# Altium schematic symbol library kmilo17pet-NSC_Amplifier.SchLib: 1665 symbols (part 15 of 44)
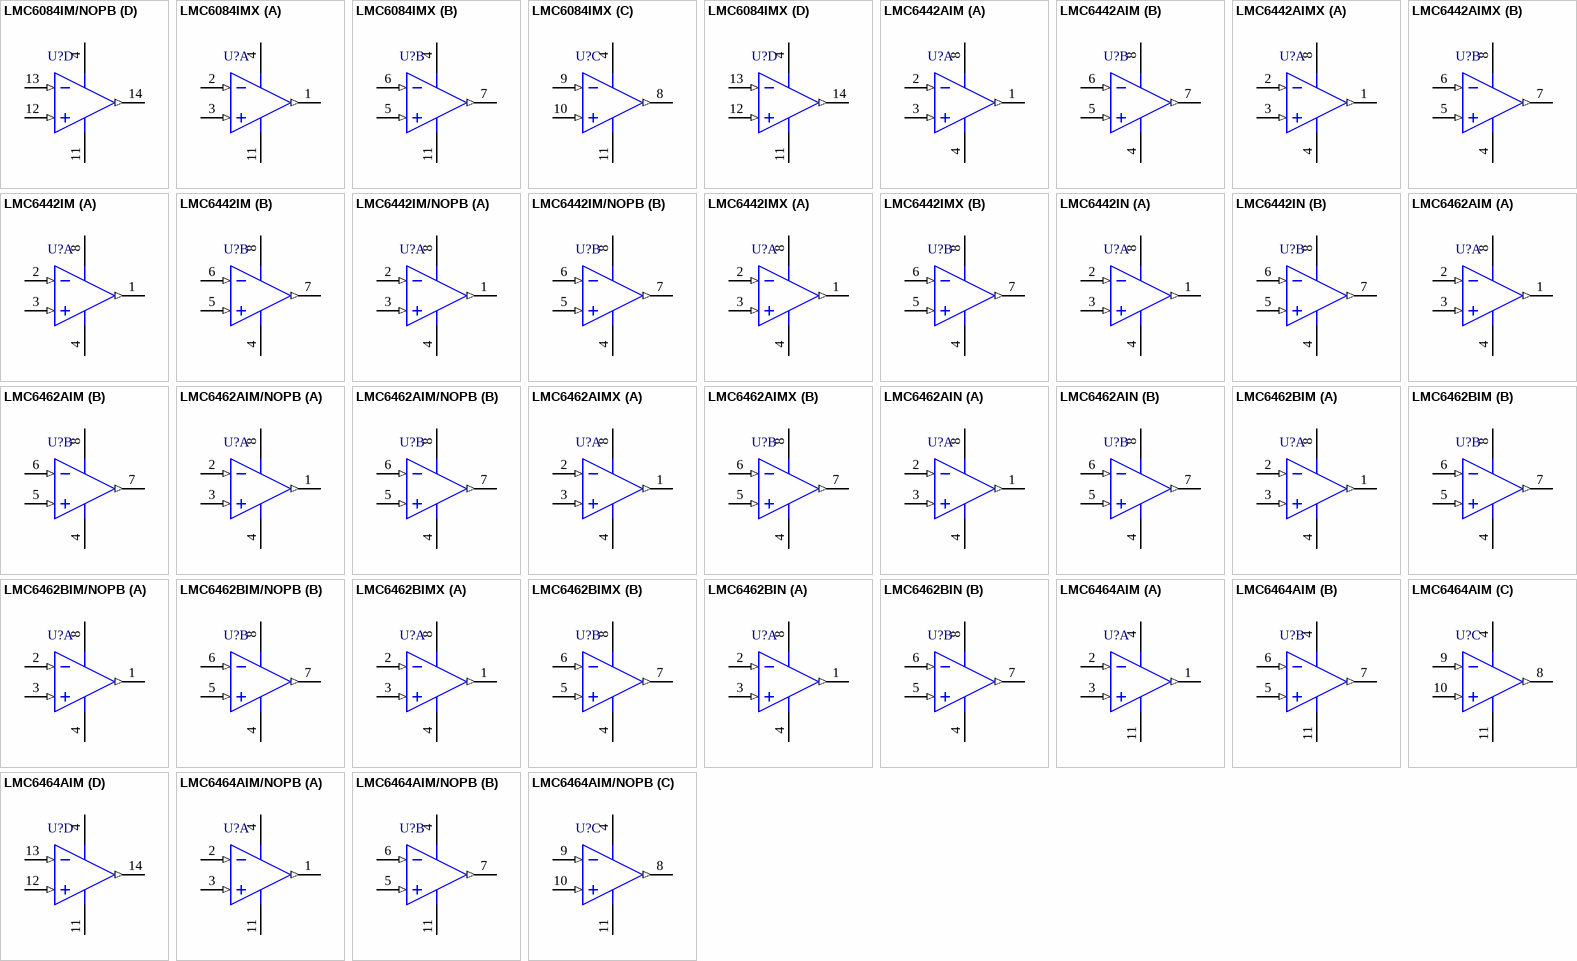
[diagram p98: symbols LMC6084IM/NOPB to LMC6464AIM/NOPB]

## LMC6464AIM
designator U?
Quad Micropower, Rail-to-Rail Input and Output CMOS Operational Amplifier, 14-pin Narrow SOIC; PartNumber: LMC6464AIM; Manufacturer: National Semiconductor; PackageTopMarking: NSUZXYTTE#*LMC6464*AIM; PowerWise: N; CompType: Amplifiers; High-Reliability: Y; DatasheetVersion: Feb-2004; PackageVersion: revJ, Jan-1996; PackageReference: M14A; PackageDescription: Molded Package S.O., .150in Wide, 14 Lead; RoHS: N; PinCount: 14; Code_JEDEC: MS-012AB; Code_IPC: SOIC127P600-14; ComponentLink1Description: Manufacturer URL; ComponentLink1URL: http://www.national.com/; ComponentLink2Description: LMC6464 Datasheet; ComponentLink2URL: http://www.national.com/ds/LM/LMC6464.pdf; ComponentLink3Description: LMC6464 Web Page; ComponentLink3URL: http://www.national.com/pf/LM/LMC6464.html; ComponentLink4Description: M14A Package Page; ComponentLink4URL: http://www.national.com/packaging/folders/m14a.html
footprint M14A_N (SOIC, 14-Leads, Body 8.6x3.9mm, Pitch 1.27mm, IPC Medium Density)
footprint M14A_L (SOIC, 14-Leads, Body 8.6x3.9mm, Pitch 1.27mm, IPC High Density)
footprint M14A_M (SOIC, 14-Leads, Body 8.6x3.9mm, Pitch 1.27mm, IPC Low Density)
pins on every part: 4 V+ (power), 11 V- (power)
part A pins: 1 OUTA (out), 2 INA- (in), 3 INA+ (in)
part B pins: 5 INB+ (in), 6 INB- (in), 7 OUTB (out)
part C pins: 8 OUTC (out), 9 INC- (in), 10 INC+ (in)
part D pins: 12 IND+ (in), 13 IND- (in), 14 OUTD (out)

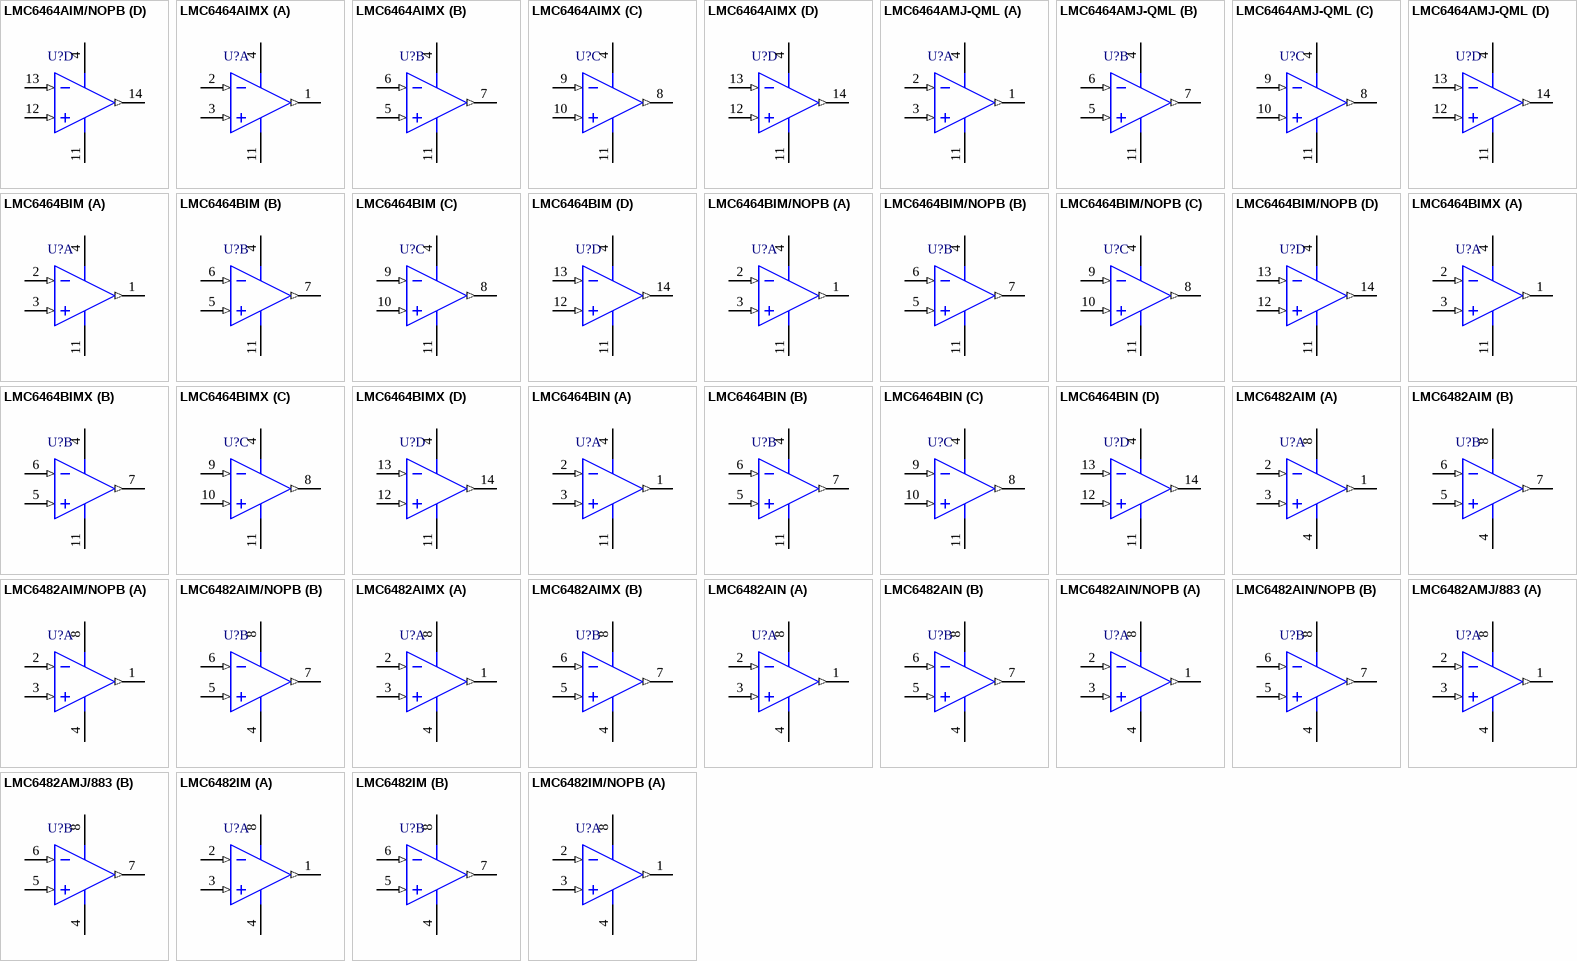
[diagram p33: symbols LMC6464AIM/NOPB to LMC6482IM/NOPB]

## LMC6464AIM/NOPB
designator U?
Quad Micropower, Rail-to-Rail Input and Output CMOS Operational Amplifier, 14-pin Narrow SOIC, Pb-Free; PartNumber: LMC6464AIM/NOPB; Manufacturer: National Semiconductor; PackageTopMarking: NSUZXYTTE#*LMC6464*AIM; PowerWise: N; CompType: Amplifiers; High-Reliability: Y; DatasheetVersion: Feb-2004; PackageVersion: revJ, Jan-1996; PackageReference: M14A; PackageDescription: Molded Package S.O., .150in Wide, 14 Lead; RoHS: Y; PinCount: 14; Code_JEDEC: MS-012AB; Code_IPC: SOIC127P600-14; ComponentLink1Description: Manufacturer URL; ComponentLink1URL: http://www.national.com/; ComponentLink2Description: LMC6464 Datasheet; ComponentLink2URL: http://www.national.com/ds/LM/LMC6464.pdf; ComponentLink3Description: LMC6464 Web Page; ComponentLink3URL: http://www.national.com/pf/LM/LMC6464.html; ComponentLink4Description: M14A Package Page; ComponentLink4URL: http://www.national.com/packaging/folders/m14a.html
footprint M14A_N (SOIC, 14-Leads, Body 8.6x3.9mm, Pitch 1.27mm, IPC Medium Density)
footprint M14A_L (SOIC, 14-Leads, Body 8.6x3.9mm, Pitch 1.27mm, IPC High Density)
footprint M14A_M (SOIC, 14-Leads, Body 8.6x3.9mm, Pitch 1.27mm, IPC Low Density)
pins on every part: 4 V+ (power), 11 V- (power)
part A pins: 1 OUTA (out), 2 INA- (in), 3 INA+ (in)
part B pins: 5 INB+ (in), 6 INB- (in), 7 OUTB (out)
part C pins: 8 OUTC (out), 9 INC- (in), 10 INC+ (in)
part D pins: 12 IND+ (in), 13 IND- (in), 14 OUTD (out)

## LMC6464AIMX
designator U?
Quad Micropower, Rail-to-Rail Input and Output CMOS Operational Amplifier, 14-pin Narrow SOIC; PartNumber: LMC6464AIMX; Manufacturer: National Semiconductor; PackageTopMarking: NSUZXYTTE#*LMC6464*AIM; PowerWise: N; CompType: Amplifiers; High-Reliability: Y; DatasheetVersion: Feb-2004; PackageVersion: revJ, Jan-1996; PackageReference: M14A; PackageDescription: Molded Package S.O., .150in Wide, 14 Lead; RoHS: N; PinCount: 14; Code_JEDEC: MS-012AB; Code_IPC: SOIC127P600-14; ComponentLink1Description: Manufacturer URL; ComponentLink1URL: http://www.national.com/; ComponentLink2Description: LMC6464 Datasheet; ComponentLink2URL: http://www.national.com/ds/LM/LMC6464.pdf; ComponentLink3Description: LMC6464 Web Page; ComponentLink3URL: http://www.national.com/pf/LM/LMC6464.html; ComponentLink4Description: M14A Package Page; ComponentLink4URL: http://www.national.com/packaging/folders/m14a.html
footprint M14A_N (SOIC, 14-Leads, Body 8.6x3.9mm, Pitch 1.27mm, IPC Medium Density)
footprint M14A_L (SOIC, 14-Leads, Body 8.6x3.9mm, Pitch 1.27mm, IPC High Density)
footprint M14A_M (SOIC, 14-Leads, Body 8.6x3.9mm, Pitch 1.27mm, IPC Low Density)
pins on every part: 4 V+ (power), 11 V- (power)
part A pins: 1 OUTA (out), 2 INA- (in), 3 INA+ (in)
part B pins: 5 INB+ (in), 6 INB- (in), 7 OUTB (out)
part C pins: 8 OUTC (out), 9 INC- (in), 10 INC+ (in)
part D pins: 12 IND+ (in), 13 IND- (in), 14 OUTD (out)

## LMC6464AMJ-QML
designator U?
Quad Micropower, Rail-to-Rail Input and Output CMOS Operational Amplifier, 14-pin CerDIP, 25 Rail; PartNumber: LMC6464AMJ-QML; Manufacturer: National Semiconductor; PackageTopMarking: NSZSSXXYYA*LMC6464AMJ-QML*5962-9560302QCA Q; PowerWise: N; CompType: Amplifiers; High-Reliability: Y; DatasheetVersion: Dec-2010; PackageVersion: revJ, Jul-2002; PackageReference: J14A; PackageDescription: Cerdip, .400 x .310in Body, 14 Lead, .300in Centers, .100in Pitch; RoHS: N; PinCount: 14; ComponentLink1Description: Manufacturer URL; ComponentLink1URL: http://www.national.com/; ComponentLink2Description: LMC6464 Datasheet; ComponentLink2URL: http://www.national.com/ds/LM/LMC6464QML.pdf; ComponentLink3Description: LMC6464 Web Page; ComponentLink3URL: http://www.national.com/pf/LM/LMC6464.html; ComponentLink4Description: J14A Package Page; ComponentLink4URL: http://www.national.com/packaging/folders/j14a.html
footprint J14A (DIP, 14-Leads, Row Spacing 7.62mm, Pitch 2.54mm, Body 19.56x6.73mm)
pins on every part: 4 V+ (power), 11 V- (power)
part A pins: 1 OUTA (out), 2 INA- (in), 3 INA+ (in)
part B pins: 5 INB+ (in), 6 INB- (in), 7 OUTB (out)
part C pins: 8 OUTC (out), 9 INC- (in), 10 INC+ (in)
part D pins: 12 IND+ (in), 13 IND- (in), 14 OUTD (out)

## LMC6464BIM
designator U?
Quad Micropower, Rail-to-Rail Input and Output CMOS Operational Amplifier, 14-pin Narrow SOIC; PartNumber: LMC6464BIM; Manufacturer: National Semiconductor; PackageTopMarking: NSUZXYTTE#*LMC6464*BIM; PowerWise: N; CompType: Amplifiers; High-Reliability: Y; DatasheetVersion: Feb-2004; PackageVersion: revJ, Jan-1996; PackageReference: M14A; PackageDescription: Molded Package S.O., .150in Wide, 14 Lead; RoHS: N; PinCount: 14; Code_JEDEC: MS-012AB; Code_IPC: SOIC127P600-14; ComponentLink1Description: Manufacturer URL; ComponentLink1URL: http://www.national.com/; ComponentLink2Description: LMC6464 Datasheet; ComponentLink2URL: http://www.national.com/ds/LM/LMC6464.pdf; ComponentLink3Description: LMC6464 Web Page; ComponentLink3URL: http://www.national.com/pf/LM/LMC6464.html; ComponentLink4Description: M14A Package Page; ComponentLink4URL: http://www.national.com/packaging/folders/m14a.html
footprint M14A_N (SOIC, 14-Leads, Body 8.6x3.9mm, Pitch 1.27mm, IPC Medium Density)
footprint M14A_L (SOIC, 14-Leads, Body 8.6x3.9mm, Pitch 1.27mm, IPC High Density)
footprint M14A_M (SOIC, 14-Leads, Body 8.6x3.9mm, Pitch 1.27mm, IPC Low Density)
pins on every part: 4 V+ (power), 11 V- (power)
part A pins: 1 OUTA (out), 2 INA- (in), 3 INA+ (in)
part B pins: 5 INB+ (in), 6 INB- (in), 7 OUTB (out)
part C pins: 8 OUTC (out), 9 INC- (in), 10 INC+ (in)
part D pins: 12 IND+ (in), 13 IND- (in), 14 OUTD (out)

## LMC6464BIM/NOPB
designator U?
Quad Micropower, Rail-to-Rail Input and Output CMOS Operational Amplifier, 14-pin Narrow SOIC, Pb-Free; PartNumber: LMC6464BIM/NOPB; Manufacturer: National Semiconductor; PackageTopMarking: NSUZXYTTE#*LMC6464*BIM; PowerWise: N; CompType: Amplifiers; High-Reliability: Y; DatasheetVersion: Feb-2004; PackageVersion: revJ, Jan-1996; PackageReference: M14A; PackageDescription: Molded Package S.O., .150in Wide, 14 Lead; RoHS: Y; PinCount: 14; Code_JEDEC: MS-012AB; Code_IPC: SOIC127P600-14; ComponentLink1Description: Manufacturer URL; ComponentLink1URL: http://www.national.com/; ComponentLink2Description: LMC6464 Datasheet; ComponentLink2URL: http://www.national.com/ds/LM/LMC6464.pdf; ComponentLink3Description: LMC6464 Web Page; ComponentLink3URL: http://www.national.com/pf/LM/LMC6464.html; ComponentLink4Description: M14A Package Page; ComponentLink4URL: http://www.national.com/packaging/folders/m14a.html
footprint M14A_N (SOIC, 14-Leads, Body 8.6x3.9mm, Pitch 1.27mm, IPC Medium Density)
footprint M14A_L (SOIC, 14-Leads, Body 8.6x3.9mm, Pitch 1.27mm, IPC High Density)
footprint M14A_M (SOIC, 14-Leads, Body 8.6x3.9mm, Pitch 1.27mm, IPC Low Density)
pins on every part: 4 V+ (power), 11 V- (power)
part A pins: 1 OUTA (out), 2 INA- (in), 3 INA+ (in)
part B pins: 5 INB+ (in), 6 INB- (in), 7 OUTB (out)
part C pins: 8 OUTC (out), 9 INC- (in), 10 INC+ (in)
part D pins: 12 IND+ (in), 13 IND- (in), 14 OUTD (out)

## LMC6464BIMX
designator U?
Quad Micropower, Rail-to-Rail Input and Output CMOS Operational Amplifier, 14-pin Narrow SOIC; PartNumber: LMC6464BIMX; Manufacturer: National Semiconductor; PackageTopMarking: NSUZXYTTE#*LMC6464*BIM; PowerWise: N; CompType: Amplifiers; High-Reliability: Y; DatasheetVersion: Feb-2004; PackageVersion: revJ, Jan-1996; PackageReference: M14A; PackageDescription: Molded Package S.O., .150in Wide, 14 Lead; RoHS: N; PinCount: 14; Code_JEDEC: MS-012AB; Code_IPC: SOIC127P600-14; ComponentLink1Description: Manufacturer URL; ComponentLink1URL: http://www.national.com/; ComponentLink2Description: LMC6464 Datasheet; ComponentLink2URL: http://www.national.com/ds/LM/LMC6464.pdf; ComponentLink3Description: LMC6464 Web Page; ComponentLink3URL: http://www.national.com/pf/LM/LMC6464.html; ComponentLink4Description: M14A Package Page; ComponentLink4URL: http://www.national.com/packaging/folders/m14a.html
footprint M14A_N (SOIC, 14-Leads, Body 8.6x3.9mm, Pitch 1.27mm, IPC Medium Density)
footprint M14A_L (SOIC, 14-Leads, Body 8.6x3.9mm, Pitch 1.27mm, IPC High Density)
footprint M14A_M (SOIC, 14-Leads, Body 8.6x3.9mm, Pitch 1.27mm, IPC Low Density)
pins on every part: 4 V+ (power), 11 V- (power)
part A pins: 1 OUTA (out), 2 INA- (in), 3 INA+ (in)
part B pins: 5 INB+ (in), 6 INB- (in), 7 OUTB (out)
part C pins: 8 OUTC (out), 9 INC- (in), 10 INC+ (in)
part D pins: 12 IND+ (in), 13 IND- (in), 14 OUTD (out)

## LMC6464BIN
designator U?
Quad Micropower, Rail-to-Rail Input and Output CMOS Operational Amplifier, 14-pin MDIP; PartNumber: LMC6464BIN; Manufacturer: National Semiconductor; PackageTopMarking: NSUZXYYTTE#*LMC6464BIN; PowerWise: N; CompType: Amplifiers; High-Reliability: Y; DatasheetVersion: Feb-2004; PackageVersion: revG, May-2006; PackageReference: N14A; PackageDescription: MDIP, .750 x .250 x.130in, 14 Lead, .100in Pitch; RoHS: N; PinCount: 14; Code_JEDEC: MS-001-AA; ComponentLink1Description: Manufacturer URL; ComponentLink1URL: http://www.national.com/; ComponentLink2Description: LMC6464 Datasheet; ComponentLink2URL: http://www.national.com/ds/LM/LMC6464.pdf; ComponentLink3Description: LMC6464 Web Page; ComponentLink3URL: http://www.national.com/pf/LM/LMC6464.html; ComponentLink4Description: N14A Package Page; ComponentLink4URL: http://www.national.com/packaging/folders/n14a.html
footprint N14A (DIP, 14-Leads, Row Spacing 7.62mm, Pitch 2.54mm, Body 19.56x6.35mm)
pins on every part: 4 V+ (power), 11 V- (power)
part A pins: 1 OUTA (out), 2 INA- (in), 3 INA+ (in)
part B pins: 5 INB+ (in), 6 INB- (in), 7 OUTB (out)
part C pins: 8 OUTC (out), 9 INC- (in), 10 INC+ (in)
part D pins: 12 IND+ (in), 13 IND- (in), 14 OUTD (out)

## LMC6482AIM
designator U?
CMOS Dual Rail-to-Rail Input and Output Operational Amplifier, 8-pin Narrow SOIC; PartNumber: LMC6482AIM; Manufacturer: National Semiconductor; PackageTopMarking: NSZXTT*LMC64*82AIM; PowerWise: N; CompType: Amplifiers; High-Reliability: Y; DatasheetVersion: Sep-2003; PackageVersion: revM, May-2009; PackageReference: M08A; PackageDescription: SOIC Narrow, 4.9 x 3.9 x 1.45mm, 8 Lead, 1.27mm Pitch; RoHS: N; PinCount: 8; Code_JEDEC: MS-012-AA; Code_IPC: SOIC127P600-8; ComponentLink1Description: Manufacturer URL; ComponentLink1URL: http://www.national.com/; ComponentLink2Description: LMC6482 Datasheet; ComponentLink2URL: http://www.national.com/ds/LM/LMC6482.pdf; ComponentLink3Description: LMC6482 Web Page; ComponentLink3URL: http://www.national.com/pf/LM/LMC6482.html; ComponentLink4Description: M08A Package Page; ComponentLink4URL: http://www.national.com/packaging/folders/m08a.html
footprint M08A_N (SOIC, 8-Leads, Body 4.9x3.9mm, Pitch 1.27mm, IPC Medium Density)
footprint M08A_L (SOIC, 8-Leads, Body 4.9x3.9mm, Pitch 1.27mm, IPC High Density)
footprint M08A_M (SOIC, 8-Leads, Body 4.9x3.9mm, Pitch 1.27mm, IPC Low Density)
pins on every part: 4 V- (power), 8 V+ (power)
part A pins: 1 OUTA (out), 2 INA- (in), 3 INA+ (in)
part B pins: 5 INB+ (in), 6 INB- (in), 7 OUTB (out)

## LMC6482AIM/NOPB
designator U?
CMOS Dual Rail-to-Rail Input and Output Operational Amplifier, 8-pin Narrow SOIC, Pb-Free; PartNumber: LMC6482AIM/NOPB; Manufacturer: National Semiconductor; PackageTopMarking: NSZXTT*LMC64*82AIM; PowerWise: N; CompType: Amplifiers; High-Reliability: Y; DatasheetVersion: Sep-2003; PackageVersion: revM, May-2009; PackageReference: M08A; PackageDescription: SOIC Narrow, 4.9 x 3.9 x 1.45mm, 8 Lead, 1.27mm Pitch; RoHS: Y; PinCount: 8; Code_JEDEC: MS-012-AA; Code_IPC: SOIC127P600-8; ComponentLink1Description: Manufacturer URL; ComponentLink1URL: http://www.national.com/; ComponentLink2Description: LMC6482 Datasheet; ComponentLink2URL: http://www.national.com/ds/LM/LMC6482.pdf; ComponentLink3Description: LMC6482 Web Page; ComponentLink3URL: http://www.national.com/pf/LM/LMC6482.html; ComponentLink4Description: M08A Package Page; ComponentLink4URL: http://www.national.com/packaging/folders/m08a.html
footprint M08A_N (SOIC, 8-Leads, Body 4.9x3.9mm, Pitch 1.27mm, IPC Medium Density)
footprint M08A_L (SOIC, 8-Leads, Body 4.9x3.9mm, Pitch 1.27mm, IPC High Density)
footprint M08A_M (SOIC, 8-Leads, Body 4.9x3.9mm, Pitch 1.27mm, IPC Low Density)
pins on every part: 4 V- (power), 8 V+ (power)
part A pins: 1 OUTA (out), 2 INA- (in), 3 INA+ (in)
part B pins: 5 INB+ (in), 6 INB- (in), 7 OUTB (out)

## LMC6482AIMX
designator U?
CMOS Dual Rail-to-Rail Input and Output Operational Amplifier, 8-pin Narrow SOIC; PartNumber: LMC6482AIMX; Manufacturer: National Semiconductor; PackageTopMarking: NSZXTT*LMC64*82AIM; PowerWise: N; CompType: Amplifiers; High-Reliability: Y; DatasheetVersion: Sep-2003; PackageVersion: revM, May-2009; PackageReference: M08A; PackageDescription: SOIC Narrow, 4.9 x 3.9 x 1.45mm, 8 Lead, 1.27mm Pitch; RoHS: N; PinCount: 8; Code_JEDEC: MS-012-AA; Code_IPC: SOIC127P600-8; ComponentLink1Description: Manufacturer URL; ComponentLink1URL: http://www.national.com/; ComponentLink2Description: LMC6482 Datasheet; ComponentLink2URL: http://www.national.com/ds/LM/LMC6482.pdf; ComponentLink3Description: LMC6482 Web Page; ComponentLink3URL: http://www.national.com/pf/LM/LMC6482.html; ComponentLink4Description: M08A Package Page; ComponentLink4URL: http://www.national.com/packaging/folders/m08a.html
footprint M08A_N (SOIC, 8-Leads, Body 4.9x3.9mm, Pitch 1.27mm, IPC Medium Density)
footprint M08A_L (SOIC, 8-Leads, Body 4.9x3.9mm, Pitch 1.27mm, IPC High Density)
footprint M08A_M (SOIC, 8-Leads, Body 4.9x3.9mm, Pitch 1.27mm, IPC Low Density)
pins on every part: 4 V- (power), 8 V+ (power)
part A pins: 1 OUTA (out), 2 INA- (in), 3 INA+ (in)
part B pins: 5 INB+ (in), 6 INB- (in), 7 OUTB (out)

## LMC6482AIN
designator U?
CMOS Dual Rail-to-Rail Input and Output Operational Amplifier, 8-pin MDIP; PartNumber: LMC6482AIN; Manufacturer: National Semiconductor; PackageTopMarking: NSUZXYTTE#*LMC64*82AIN; PowerWise: N; CompType: Amplifiers; High-Reliability: Y; DatasheetVersion: Sep-2003; PackageVersion: revG, May-2006; PackageReference: N08E; PackageDescription: MDIP, .365 x .250 x .130in, 8 Lead, .100in Pitch; RoHS: N; PinCount: 8; Code_JEDEC: MS-001-BA; ComponentLink1Description: Manufacturer URL; ComponentLink1URL: http://www.national.com/; ComponentLink2Description: LMC6482 Datasheet; ComponentLink2URL: http://www.national.com/ds/LM/LMC6482.pdf; ComponentLink3Description: LMC6482 Web Page; ComponentLink3URL: http://www.national.com/pf/LM/LMC6482.html; ComponentLink4Description: N08E Package Page; ComponentLink4URL: http://www.national.com/packaging/folders/n08e.html
footprint N08E (DIP, 8-Leads, Row Spacing 7.62mm, Pitch 2.54mm, Body 9.91x6.35mm)
pins on every part: 4 V- (power), 8 V+ (power)
part A pins: 1 OUTA (out), 2 INA- (in), 3 INA+ (in)
part B pins: 5 INB+ (in), 6 INB- (in), 7 OUTB (out)

## LMC6482AIN/NOPB
designator U?
CMOS Dual Rail-to-Rail Input and Output Operational Amplifier, 8-pin MDIP, Pb-Free; PartNumber: LMC6482AIN/NOPB; Manufacturer: National Semiconductor; PackageTopMarking: NSUZXYTTE#*LMC64*82AIN; PowerWise: N; CompType: Amplifiers; High-Reliability: Y; DatasheetVersion: Sep-2003; PackageVersion: revG, May-2006; PackageReference: N08E; PackageDescription: MDIP, .365 x .250 x .130in, 8 Lead, .100in Pitch; RoHS: Y; PinCount: 8; Code_JEDEC: MS-001-BA; ComponentLink1Description: Manufacturer URL; ComponentLink1URL: http://www.national.com/; ComponentLink2Description: LMC6482 Datasheet; ComponentLink2URL: http://www.national.com/ds/LM/LMC6482.pdf; ComponentLink3Description: LMC6482 Web Page; ComponentLink3URL: http://www.national.com/pf/LM/LMC6482.html; ComponentLink4Description: N08E Package Page; ComponentLink4URL: http://www.national.com/packaging/folders/n08e.html
footprint N08E (DIP, 8-Leads, Row Spacing 7.62mm, Pitch 2.54mm, Body 9.91x6.35mm)
pins on every part: 4 V- (power), 8 V+ (power)
part A pins: 1 OUTA (out), 2 INA- (in), 3 INA+ (in)
part B pins: 5 INB+ (in), 6 INB- (in), 7 OUTB (out)

## LMC6482AMJ/883
designator U?
CMOS Dual Rail-to-Rail Input and Output Operational Amplifier, 8-pin CerDIP; PartNumber: LMC6482AMJ/883; Manufacturer: National Semiconductor; PackageTopMarking: NSZSSXXYYA*LMC6482AMJ/*883 Q 5962-*9453401MPA; PowerWise: N; CompType: Amplifiers; High-Reliability: Y; DatasheetVersion: Sep-2003; PackageVersion: revM, Jul-2002; PackageReference: J08A; PackageDescription: Cerdip, .400 x .310in Body, 8 Lead, .300in Centers, .100in Pitch; RoHS: N; PinCount: 8; ComponentLink1Description: Manufacturer URL; ComponentLink1URL: http://www.national.com/; ComponentLink2Description: LMC6482 Datasheet; ComponentLink2URL: http://www.national.com/ds/LM/LMC6482QML.pdf; ComponentLink3Description: LMC6482 Web Page; ComponentLink3URL: http://www.national.com/pf/LM/LMC6482.html; ComponentLink4Description: J08A Package Page; ComponentLink4URL: http://www.national.com/packaging/folders/j08a.html
footprint J08A (DIP, 8-Leads, Row Spacing 7.62mm, Pitch 2.54mm, Body 9.78x6.73mm)
pins on every part: 4 V- (power), 8 V+ (power)
part A pins: 1 OUTA (out), 2 INA- (in), 3 INA+ (in)
part B pins: 5 INB+ (in), 6 INB- (in), 7 OUTB (out)

## LMC6482IM
designator U?
CMOS Dual Rail-to-Rail Input and Output Operational Amplifier, 8-pin Narrow SOIC; PartNumber: LMC6482IM; Manufacturer: National Semiconductor; PackageTopMarking: NSZXTT*LMC64*82IM; PowerWise: N; CompType: Amplifiers; High-Reliability: Y; DatasheetVersion: Sep-2003; PackageVersion: revM, May-2009; PackageReference: M08A; PackageDescription: SOIC Narrow, 4.9 x 3.9 x 1.45mm, 8 Lead, 1.27mm Pitch; RoHS: N; PinCount: 8; Code_JEDEC: MS-012-AA; Code_IPC: SOIC127P600-8; ComponentLink1Description: Manufacturer URL; ComponentLink1URL: http://www.national.com/; ComponentLink2Description: LMC6482 Datasheet; ComponentLink2URL: http://www.national.com/ds/LM/LMC6482.pdf; ComponentLink3Description: LMC6482 Web Page; ComponentLink3URL: http://www.national.com/pf/LM/LMC6482.html; ComponentLink4Description: M08A Package Page; ComponentLink4URL: http://www.national.com/packaging/folders/m08a.html
footprint M08A_N (SOIC, 8-Leads, Body 4.9x3.9mm, Pitch 1.27mm, IPC Medium Density)
footprint M08A_L (SOIC, 8-Leads, Body 4.9x3.9mm, Pitch 1.27mm, IPC High Density)
footprint M08A_M (SOIC, 8-Leads, Body 4.9x3.9mm, Pitch 1.27mm, IPC Low Density)
pins on every part: 4 V- (power), 8 V+ (power)
part A pins: 1 OUTA (out), 2 INA- (in), 3 INA+ (in)
part B pins: 5 INB+ (in), 6 INB- (in), 7 OUTB (out)

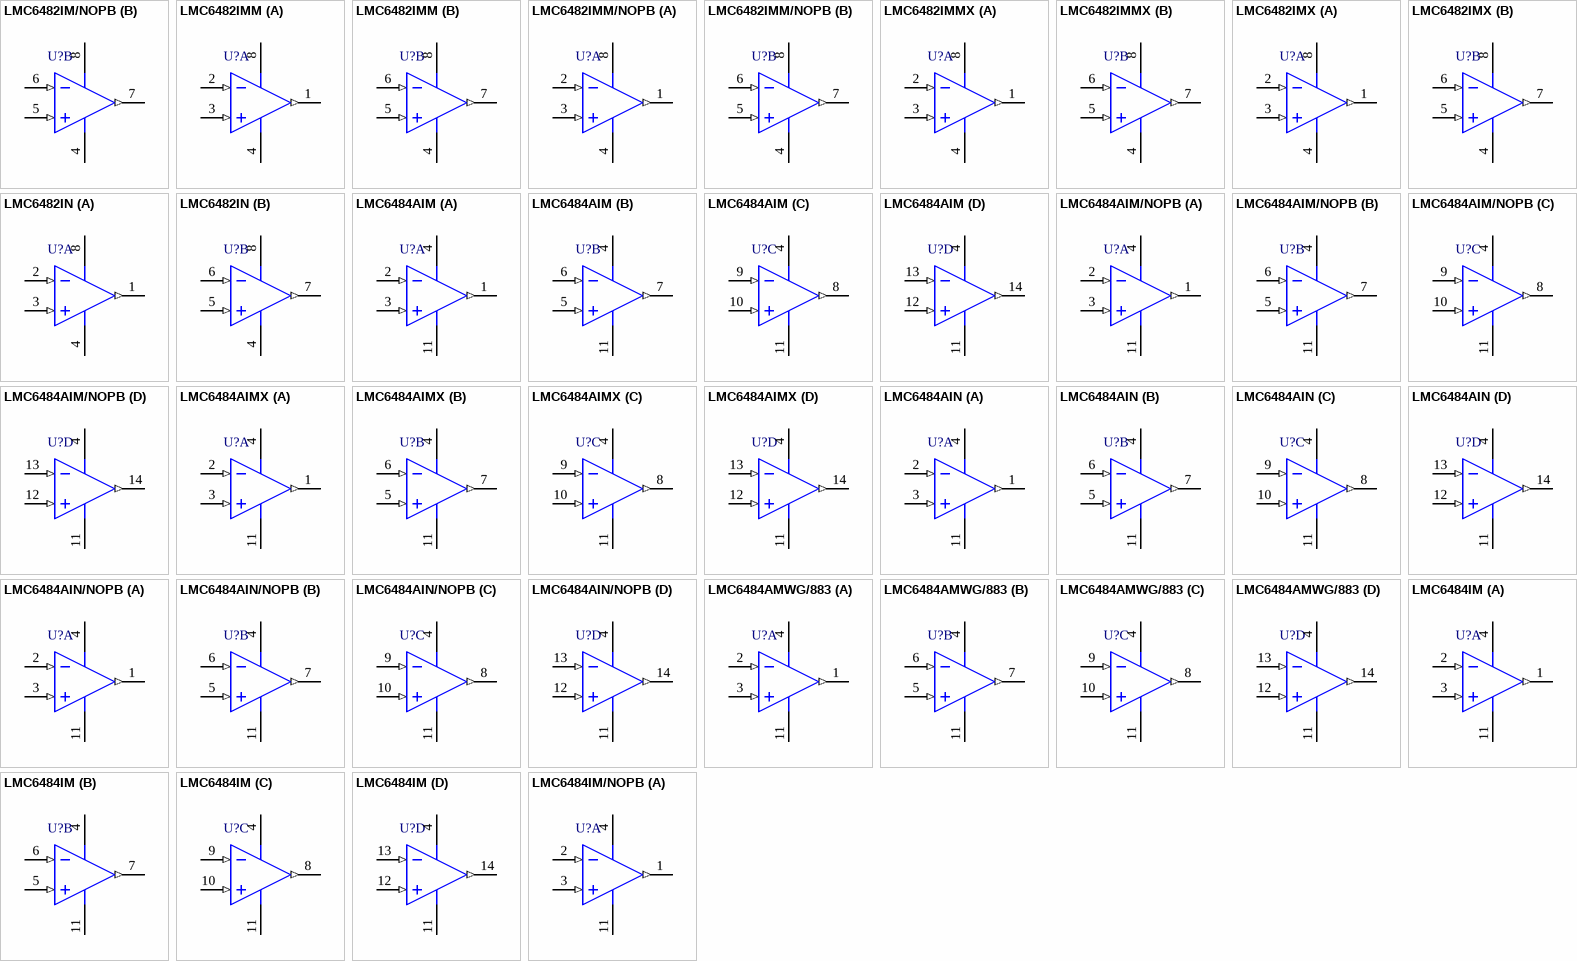
[diagram p34: symbols LMC6482IM/NOPB to LMC6484IM/NOPB]

## LMC6482IM/NOPB
designator U?
CMOS Dual Rail-to-Rail Input and Output Operational Amplifier, 8-pin Narrow SOIC, Pb-Free; PartNumber: LMC6482IM/NOPB; Manufacturer: National Semiconductor; PackageTopMarking: NSZXTT*LMC64*82IM; PowerWise: N; CompType: Amplifiers; High-Reliability: Y; DatasheetVersion: Sep-2003; PackageVersion: revM, May-2009; PackageReference: M08A; PackageDescription: SOIC Narrow, 4.9 x 3.9 x 1.45mm, 8 Lead, 1.27mm Pitch; RoHS: Y; PinCount: 8; Code_JEDEC: MS-012-AA; Code_IPC: SOIC127P600-8; ComponentLink1Description: Manufacturer URL; ComponentLink1URL: http://www.national.com/; ComponentLink2Description: LMC6482 Datasheet; ComponentLink2URL: http://www.national.com/ds/LM/LMC6482.pdf; ComponentLink3Description: LMC6482 Web Page; ComponentLink3URL: http://www.national.com/pf/LM/LMC6482.html; ComponentLink4Description: M08A Package Page; ComponentLink4URL: http://www.national.com/packaging/folders/m08a.html
footprint M08A_N (SOIC, 8-Leads, Body 4.9x3.9mm, Pitch 1.27mm, IPC Medium Density)
footprint M08A_L (SOIC, 8-Leads, Body 4.9x3.9mm, Pitch 1.27mm, IPC High Density)
footprint M08A_M (SOIC, 8-Leads, Body 4.9x3.9mm, Pitch 1.27mm, IPC Low Density)
pins on every part: 4 V- (power), 8 V+ (power)
part A pins: 1 OUTA (out), 2 INA- (in), 3 INA+ (in)
part B pins: 5 INB+ (in), 6 INB- (in), 7 OUTB (out)

## LMC6482IMM
designator U?
CMOS Dual Rail-to-Rail Input and Output Operational Amplifier, 8-pin Mini SOIC; PartNumber: LMC6482IMM; Manufacturer: National Semiconductor; PackageTopMarking: ZXTT*A10; PowerWise: N; CompType: Amplifiers; High-Reliability: Y; DatasheetVersion: Sep-2003; PackageVersion: revF, Apr-2008; PackageReference: MUA08A; PackageDescription: MINI SOIC, .118 x .118 x .034in, 8 Lead, .0256in Pitch; RoHS: N; PinCount: 8; Code_JEDEC: MO-187-AA; ComponentLink1Description: Manufacturer URL; ComponentLink1URL: http://www.national.com/; ComponentLink2Description: LMC6482 Datasheet; ComponentLink2URL: http://www.national.com/ds/LM/LMC6482.pdf; ComponentLink3Description: LMC6482 Web Page; ComponentLink3URL: http://www.national.com/pf/LM/LMC6482.html; ComponentLink4Description: MUA08A Package Page; ComponentLink4URL: http://www.national.com/packaging/folders/mua08a.html
footprint MUA08A_N (TSOP, 8-Leads, Body 3x3mm, Pitch 0.65mm, IPC Medium Density)
footprint MUA08A_L (TSOP, 8-Leads, Body 3x3mm, Pitch 0.65mm, IPC High Density)
footprint MUA08A_M (TSOP, 8-Leads, Body 3x3mm, Pitch 0.65mm, IPC Low Density)
pins on every part: 4 V- (power), 8 V+ (power)
part A pins: 1 OUTA (out), 2 INA- (in), 3 INA+ (in)
part B pins: 5 INB+ (in), 6 INB- (in), 7 OUTB (out)

## LMC6482IMM/NOPB
designator U?
CMOS Dual Rail-to-Rail Input and Output Operational Amplifier, 8-pin Mini SOIC, Pb-Free; PartNumber: LMC6482IMM/NOPB; Manufacturer: National Semiconductor; PackageTopMarking: ZXTT*A10; PowerWise: N; CompType: Amplifiers; High-Reliability: Y; DatasheetVersion: Sep-2003; PackageVersion: revF, Apr-2008; PackageReference: MUA08A; PackageDescription: MINI SOIC, .118 x .118 x .034in, 8 Lead, .0256in Pitch; RoHS: Y; PinCount: 8; Code_JEDEC: MO-187-AA; ComponentLink1Description: Manufacturer URL; ComponentLink1URL: http://www.national.com/; ComponentLink2Description: LMC6482 Datasheet; ComponentLink2URL: http://www.national.com/ds/LM/LMC6482.pdf; ComponentLink3Description: LMC6482 Web Page; ComponentLink3URL: http://www.national.com/pf/LM/LMC6482.html; ComponentLink4Description: MUA08A Package Page; ComponentLink4URL: http://www.national.com/packaging/folders/mua08a.html
footprint MUA08A_N (TSOP, 8-Leads, Body 3x3mm, Pitch 0.65mm, IPC Medium Density)
footprint MUA08A_L (TSOP, 8-Leads, Body 3x3mm, Pitch 0.65mm, IPC High Density)
footprint MUA08A_M (TSOP, 8-Leads, Body 3x3mm, Pitch 0.65mm, IPC Low Density)
pins on every part: 4 V- (power), 8 V+ (power)
part A pins: 1 OUTA (out), 2 INA- (in), 3 INA+ (in)
part B pins: 5 INB+ (in), 6 INB- (in), 7 OUTB (out)

## LMC6482IMMX
designator U?
CMOS Dual Rail-to-Rail Input and Output Operational Amplifier, 8-pin Mini SOIC; PartNumber: LMC6482IMMX; Manufacturer: National Semiconductor; PackageTopMarking: ZXTT*A10; PowerWise: N; CompType: Amplifiers; High-Reliability: Y; DatasheetVersion: Sep-2003; PackageVersion: revF, Apr-2008; PackageReference: MUA08A; PackageDescription: MINI SOIC, .118 x .118 x .034in, 8 Lead, .0256in Pitch; RoHS: N; PinCount: 8; Code_JEDEC: MO-187-AA; ComponentLink1Description: Manufacturer URL; ComponentLink1URL: http://www.national.com/; ComponentLink2Description: LMC6482 Datasheet; ComponentLink2URL: http://www.national.com/ds/LM/LMC6482.pdf; ComponentLink3Description: LMC6482 Web Page; ComponentLink3URL: http://www.national.com/pf/LM/LMC6482.html; ComponentLink4Description: MUA08A Package Page; ComponentLink4URL: http://www.national.com/packaging/folders/mua08a.html
footprint MUA08A_N (TSOP, 8-Leads, Body 3x3mm, Pitch 0.65mm, IPC Medium Density)
footprint MUA08A_L (TSOP, 8-Leads, Body 3x3mm, Pitch 0.65mm, IPC High Density)
footprint MUA08A_M (TSOP, 8-Leads, Body 3x3mm, Pitch 0.65mm, IPC Low Density)
pins on every part: 4 V- (power), 8 V+ (power)
part A pins: 1 OUTA (out), 2 INA- (in), 3 INA+ (in)
part B pins: 5 INB+ (in), 6 INB- (in), 7 OUTB (out)

## LMC6482IMX
designator U?
CMOS Dual Rail-to-Rail Input and Output Operational Amplifier, 8-pin Narrow SOIC; PartNumber: LMC6482IMX; Manufacturer: National Semiconductor; PackageTopMarking: NSZXTT*LMC64*82IM; PowerWise: N; CompType: Amplifiers; High-Reliability: Y; DatasheetVersion: Sep-2003; PackageVersion: revM, May-2009; PackageReference: M08A; PackageDescription: SOIC Narrow, 4.9 x 3.9 x 1.45mm, 8 Lead, 1.27mm Pitch; RoHS: N; PinCount: 8; Code_JEDEC: MS-012-AA; Code_IPC: SOIC127P600-8; ComponentLink1Description: Manufacturer URL; ComponentLink1URL: http://www.national.com/; ComponentLink2Description: LMC6482 Datasheet; ComponentLink2URL: http://www.national.com/ds/LM/LMC6482.pdf; ComponentLink3Description: LMC6482 Web Page; ComponentLink3URL: http://www.national.com/pf/LM/LMC6482.html; ComponentLink4Description: M08A Package Page; ComponentLink4URL: http://www.national.com/packaging/folders/m08a.html
footprint M08A_N (SOIC, 8-Leads, Body 4.9x3.9mm, Pitch 1.27mm, IPC Medium Density)
footprint M08A_L (SOIC, 8-Leads, Body 4.9x3.9mm, Pitch 1.27mm, IPC High Density)
footprint M08A_M (SOIC, 8-Leads, Body 4.9x3.9mm, Pitch 1.27mm, IPC Low Density)
pins on every part: 4 V- (power), 8 V+ (power)
part A pins: 1 OUTA (out), 2 INA- (in), 3 INA+ (in)
part B pins: 5 INB+ (in), 6 INB- (in), 7 OUTB (out)

## LMC6482IN
designator U?
CMOS Dual Rail-to-Rail Input and Output Operational Amplifier, 8-pin MDIP; PartNumber: LMC6482IN; Manufacturer: National Semiconductor; PackageTopMarking: NSUZXYTTE#*LMC6482IN; PowerWise: N; CompType: Amplifiers; High-Reliability: Y; DatasheetVersion: Sep-2003; PackageVersion: revG, May-2006; PackageReference: N08E; PackageDescription: MDIP, .365 x .250 x .130in, 8 Lead, .100in Pitch; RoHS: N; PinCount: 8; Code_JEDEC: MS-001-BA; ComponentLink1Description: Manufacturer URL; ComponentLink1URL: http://www.national.com/; ComponentLink2Description: LMC6482 Datasheet; ComponentLink2URL: http://www.national.com/ds/LM/LMC6482.pdf; ComponentLink3Description: LMC6482 Web Page; ComponentLink3URL: http://www.national.com/pf/LM/LMC6482.html; ComponentLink4Description: N08E Package Page; ComponentLink4URL: http://www.national.com/packaging/folders/n08e.html
footprint N08E (DIP, 8-Leads, Row Spacing 7.62mm, Pitch 2.54mm, Body 9.91x6.35mm)
pins on every part: 4 V- (power), 8 V+ (power)
part A pins: 1 OUTA (out), 2 INA- (in), 3 INA+ (in)
part B pins: 5 INB+ (in), 6 INB- (in), 7 OUTB (out)

## LMC6484AIM
designator U?
CMOS Quad Rail to Rail Input and Output Operational Amplifier, 14-pin Narrow SOIC; PartNumber: LMC6484AIM; Manufacturer: National Semiconductor; PackageTopMarking: NSUZXYTTE#*LMC6484*AIM; PowerWise: N; CompType: Amplifiers; High-Reliability: Y; DatasheetVersion: Aug-2000; PackageVersion: revJ, Jan-1996; PackageReference: M14A; PackageDescription: Molded Package S.O., .150in Wide, 14 Lead; RoHS: N; PinCount: 14; Code_JEDEC: MS-012AB; Code_IPC: SOIC127P600-14; ComponentLink1Description: Manufacturer URL; ComponentLink1URL: http://www.national.com/; ComponentLink2Description: LMC6484 Datasheet; ComponentLink2URL: http://www.national.com/ds/LM/LMC6484.pdf; ComponentLink3Description: LMC6484 Web Page; ComponentLink3URL: http://www.national.com/pf/LM/LMC6484.html; ComponentLink4Description: M14A Package Page; ComponentLink4URL: http://www.national.com/packaging/folders/m14a.html
footprint M14A_N (SOIC, 14-Leads, Body 8.6x3.9mm, Pitch 1.27mm, IPC Medium Density)
footprint M14A_L (SOIC, 14-Leads, Body 8.6x3.9mm, Pitch 1.27mm, IPC High Density)
footprint M14A_M (SOIC, 14-Leads, Body 8.6x3.9mm, Pitch 1.27mm, IPC Low Density)
pins on every part: 4 V+ (power), 11 V- (power)
part A pins: 1 OUT1 (out), 2 IN1- (in), 3 IN1+ (in)
part B pins: 5 IN2+ (in), 6 IN2- (in), 7 OUT2 (out)
part C pins: 8 OUT3 (out), 9 IN3- (in), 10 IN3+ (in)
part D pins: 12 IN4+ (in), 13 IN4- (in), 14 OUT4 (out)

## LMC6484AIM/NOPB
designator U?
CMOS Quad Rail to Rail Input and Output Operational Amplifier, 14-pin Narrow SOIC, Pb-Free; PartNumber: LMC6484AIM/NOPB; Manufacturer: National Semiconductor; PackageTopMarking: NSUZXYTTE#*LMC6484*AIM; PowerWise: N; CompType: Amplifiers; High-Reliability: Y; DatasheetVersion: Aug-2000; PackageVersion: revJ, Jan-1996; PackageReference: M14A; PackageDescription: Molded Package S.O., .150in Wide, 14 Lead; RoHS: Y; PinCount: 14; Code_JEDEC: MS-012AB; Code_IPC: SOIC127P600-14; ComponentLink1Description: Manufacturer URL; ComponentLink1URL: http://www.national.com/; ComponentLink2Description: LMC6484 Datasheet; ComponentLink2URL: http://www.national.com/ds/LM/LMC6484.pdf; ComponentLink3Description: LMC6484 Web Page; ComponentLink3URL: http://www.national.com/pf/LM/LMC6484.html; ComponentLink4Description: M14A Package Page; ComponentLink4URL: http://www.national.com/packaging/folders/m14a.html
footprint M14A_N (SOIC, 14-Leads, Body 8.6x3.9mm, Pitch 1.27mm, IPC Medium Density)
footprint M14A_L (SOIC, 14-Leads, Body 8.6x3.9mm, Pitch 1.27mm, IPC High Density)
footprint M14A_M (SOIC, 14-Leads, Body 8.6x3.9mm, Pitch 1.27mm, IPC Low Density)
pins on every part: 4 V+ (power), 11 V- (power)
part A pins: 1 OUT1 (out), 2 IN1- (in), 3 IN1+ (in)
part B pins: 5 IN2+ (in), 6 IN2- (in), 7 OUT2 (out)
part C pins: 8 OUT3 (out), 9 IN3- (in), 10 IN3+ (in)
part D pins: 12 IN4+ (in), 13 IN4- (in), 14 OUT4 (out)

## LMC6484AIMX
designator U?
CMOS Quad Rail to Rail Input and Output Operational Amplifier, 14-pin Narrow SOIC; PartNumber: LMC6484AIMX; Manufacturer: National Semiconductor; PackageTopMarking: NSUZXYTTE#*LMC6484*AIM; PowerWise: N; CompType: Amplifiers; High-Reliability: Y; DatasheetVersion: Aug-2000; PackageVersion: revJ, Jan-1996; PackageReference: M14A; PackageDescription: Molded Package S.O., .150in Wide, 14 Lead; RoHS: N; PinCount: 14; Code_JEDEC: MS-012AB; Code_IPC: SOIC127P600-14; ComponentLink1Description: Manufacturer URL; ComponentLink1URL: http://www.national.com/; ComponentLink2Description: LMC6484 Datasheet; ComponentLink2URL: http://www.national.com/ds/LM/LMC6484.pdf; ComponentLink3Description: LMC6484 Web Page; ComponentLink3URL: http://www.national.com/pf/LM/LMC6484.html; ComponentLink4Description: M14A Package Page; ComponentLink4URL: http://www.national.com/packaging/folders/m14a.html
footprint M14A_N (SOIC, 14-Leads, Body 8.6x3.9mm, Pitch 1.27mm, IPC Medium Density)
footprint M14A_L (SOIC, 14-Leads, Body 8.6x3.9mm, Pitch 1.27mm, IPC High Density)
footprint M14A_M (SOIC, 14-Leads, Body 8.6x3.9mm, Pitch 1.27mm, IPC Low Density)
pins on every part: 4 V+ (power), 11 V- (power)
part A pins: 1 OUT1 (out), 2 IN1- (in), 3 IN1+ (in)
part B pins: 5 IN2+ (in), 6 IN2- (in), 7 OUT2 (out)
part C pins: 8 OUT3 (out), 9 IN3- (in), 10 IN3+ (in)
part D pins: 12 IN4+ (in), 13 IN4- (in), 14 OUT4 (out)

## LMC6484AIN
designator U?
CMOS Quad Rail to Rail Input and Output Operational Amplifier, 14-pin MDIP; PartNumber: LMC6484AIN; Manufacturer: National Semiconductor; PackageTopMarking: NSUZXYYTTE#*LMC6484AIN; PowerWise: N; CompType: Amplifiers; High-Reliability: Y; DatasheetVersion: Aug-2000; PackageVersion: revG, May-2006; PackageReference: N14A; PackageDescription: MDIP, .750 x .250 x.130in, 14 Lead, .100in Pitch; RoHS: N; PinCount: 14; Code_JEDEC: MS-001-AA; ComponentLink1Description: Manufacturer URL; ComponentLink1URL: http://www.national.com/; ComponentLink2Description: LMC6484 Datasheet; ComponentLink2URL: http://www.national.com/ds/LM/LMC6484.pdf; ComponentLink3Description: LMC6484 Web Page; ComponentLink3URL: http://www.national.com/pf/LM/LMC6484.html; ComponentLink4Description: N14A Package Page; ComponentLink4URL: http://www.national.com/packaging/folders/n14a.html
footprint N14A (DIP, 14-Leads, Row Spacing 7.62mm, Pitch 2.54mm, Body 19.56x6.35mm)
pins on every part: 4 V+ (power), 11 V- (power)
part A pins: 1 OUT1 (out), 2 IN1- (in), 3 IN1+ (in)
part B pins: 5 IN2+ (in), 6 IN2- (in), 7 OUT2 (out)
part C pins: 8 OUT3 (out), 9 IN3- (in), 10 IN3+ (in)
part D pins: 12 IN4+ (in), 13 IN4- (in), 14 OUT4 (out)

## LMC6484AIN/NOPB
designator U?
CMOS Quad Rail to Rail Input and Output Operational Amplifier, 14-pin MDIP, Pb-Free; PartNumber: LMC6484AIN/NOPB; Manufacturer: National Semiconductor; PackageTopMarking: NSUZXYYTTE#*LMC6484AIN; PowerWise: N; CompType: Amplifiers; High-Reliability: Y; DatasheetVersion: Aug-2000; PackageVersion: revG, May-2006; PackageReference: N14A; PackageDescription: MDIP, .750 x .250 x.130in, 14 Lead, .100in Pitch; RoHS: Y; PinCount: 14; Code_JEDEC: MS-001-AA; ComponentLink1Description: Manufacturer URL; ComponentLink1URL: http://www.national.com/; ComponentLink2Description: LMC6484 Datasheet; ComponentLink2URL: http://www.national.com/ds/LM/LMC6484.pdf; ComponentLink3Description: LMC6484 Web Page; ComponentLink3URL: http://www.national.com/pf/LM/LMC6484.html; ComponentLink4Description: N14A Package Page; ComponentLink4URL: http://www.national.com/packaging/folders/n14a.html
footprint N14A (DIP, 14-Leads, Row Spacing 7.62mm, Pitch 2.54mm, Body 19.56x6.35mm)
pins on every part: 4 V+ (power), 11 V- (power)
part A pins: 1 OUT1 (out), 2 IN1- (in), 3 IN1+ (in)
part B pins: 5 IN2+ (in), 6 IN2- (in), 7 OUT2 (out)
part C pins: 8 OUT3 (out), 9 IN3- (in), 10 IN3+ (in)
part D pins: 12 IN4+ (in), 13 IN4- (in), 14 OUT4 (out)

## LMC6484AMWG/883
designator U?
CMOS Quad Rail to Rail Input and Output Operational Amplifier, 14-pin CerPACK; PartNumber: LMC6484AMWG/883; Manufacturer: National Semiconductor; PackageTopMarking: NSZSSXXYYA*LMC6484AMWG*/883 5962-*9453402QXA Q; PowerWise: N; CompType: Amplifiers; High-Reliability: Y; DatasheetVersion: Aug-2000; PackageVersion: revD, Jul-2007; PackageReference: WG14A; PackageDescription: Cerpack, .390 x .250 x .070in, 14 Lead, .050in Pitch, Gull Wing; RoHS: N; PinCount: 14; ComponentLink1Description: Manufacturer URL; ComponentLink1URL: http://www.national.com/; ComponentLink2Description: LMC6484 Datasheet; ComponentLink2URL: http://www.national.com/ds/LM/LMC6484QML.pdf; ComponentLink3Description: LMC6484 Web Page; ComponentLink3URL: http://www.national.com/pf/LM/LMC6484.html; ComponentLink4Description: WG14A Package Page; ComponentLink4URL: http://www.national.com/packaging/folders/wg14a.html
footprint WG14A_N (CERPACK, 14-Leads, Body 9.9x6.5mm, Pitch 1.27mm, IPC Medium Density)
footprint WG14A_L (CERPACK, 14-Leads, Body 9.9x6.5mm, Pitch 1.27mm, IPC High Density)
footprint WG14A_M (CERPACK, 14-Leads, Body 9.9x6.5mm, Pitch 1.27mm, IPC Low Density)
pins on every part: 4 V+ (power), 11 V- (power)
part A pins: 1 OUT1 (out), 2 IN1- (in), 3 IN1+ (in)
part B pins: 5 IN2+ (in), 6 IN2- (in), 7 OUT2 (out)
part C pins: 8 OUT3 (out), 9 IN3- (in), 10 IN3+ (in)
part D pins: 12 IN4+ (in), 13 IN4- (in), 14 OUT4 (out)

## LMC6484IM
designator U?
CMOS Quad Rail to Rail Input and Output Operational Amplifier, 14-pin Narrow SOIC; PartNumber: LMC6484IM; Manufacturer: National Semiconductor; PackageTopMarking: NSUZXYTTE#*LMC6484IM; PowerWise: N; CompType: Amplifiers; High-Reliability: Y; DatasheetVersion: Aug-2000; PackageVersion: revJ, Jan-1996; PackageReference: M14A; PackageDescription: Molded Package S.O., .150in Wide, 14 Lead; RoHS: N; PinCount: 14; Code_JEDEC: MS-012AB; Code_IPC: SOIC127P600-14; ComponentLink1Description: Manufacturer URL; ComponentLink1URL: http://www.national.com/; ComponentLink2Description: LMC6484 Datasheet; ComponentLink2URL: http://www.national.com/ds/LM/LMC6484.pdf; ComponentLink3Description: LMC6484 Web Page; ComponentLink3URL: http://www.national.com/pf/LM/LMC6484.html; ComponentLink4Description: M14A Package Page; ComponentLink4URL: http://www.national.com/packaging/folders/m14a.html
footprint M14A_N (SOIC, 14-Leads, Body 8.6x3.9mm, Pitch 1.27mm, IPC Medium Density)
footprint M14A_L (SOIC, 14-Leads, Body 8.6x3.9mm, Pitch 1.27mm, IPC High Density)
footprint M14A_M (SOIC, 14-Leads, Body 8.6x3.9mm, Pitch 1.27mm, IPC Low Density)
pins on every part: 4 V+ (power), 11 V- (power)
part A pins: 1 OUT1 (out), 2 IN1- (in), 3 IN1+ (in)
part B pins: 5 IN2+ (in), 6 IN2- (in), 7 OUT2 (out)
part C pins: 8 OUT3 (out), 9 IN3- (in), 10 IN3+ (in)
part D pins: 12 IN4+ (in), 13 IN4- (in), 14 OUT4 (out)

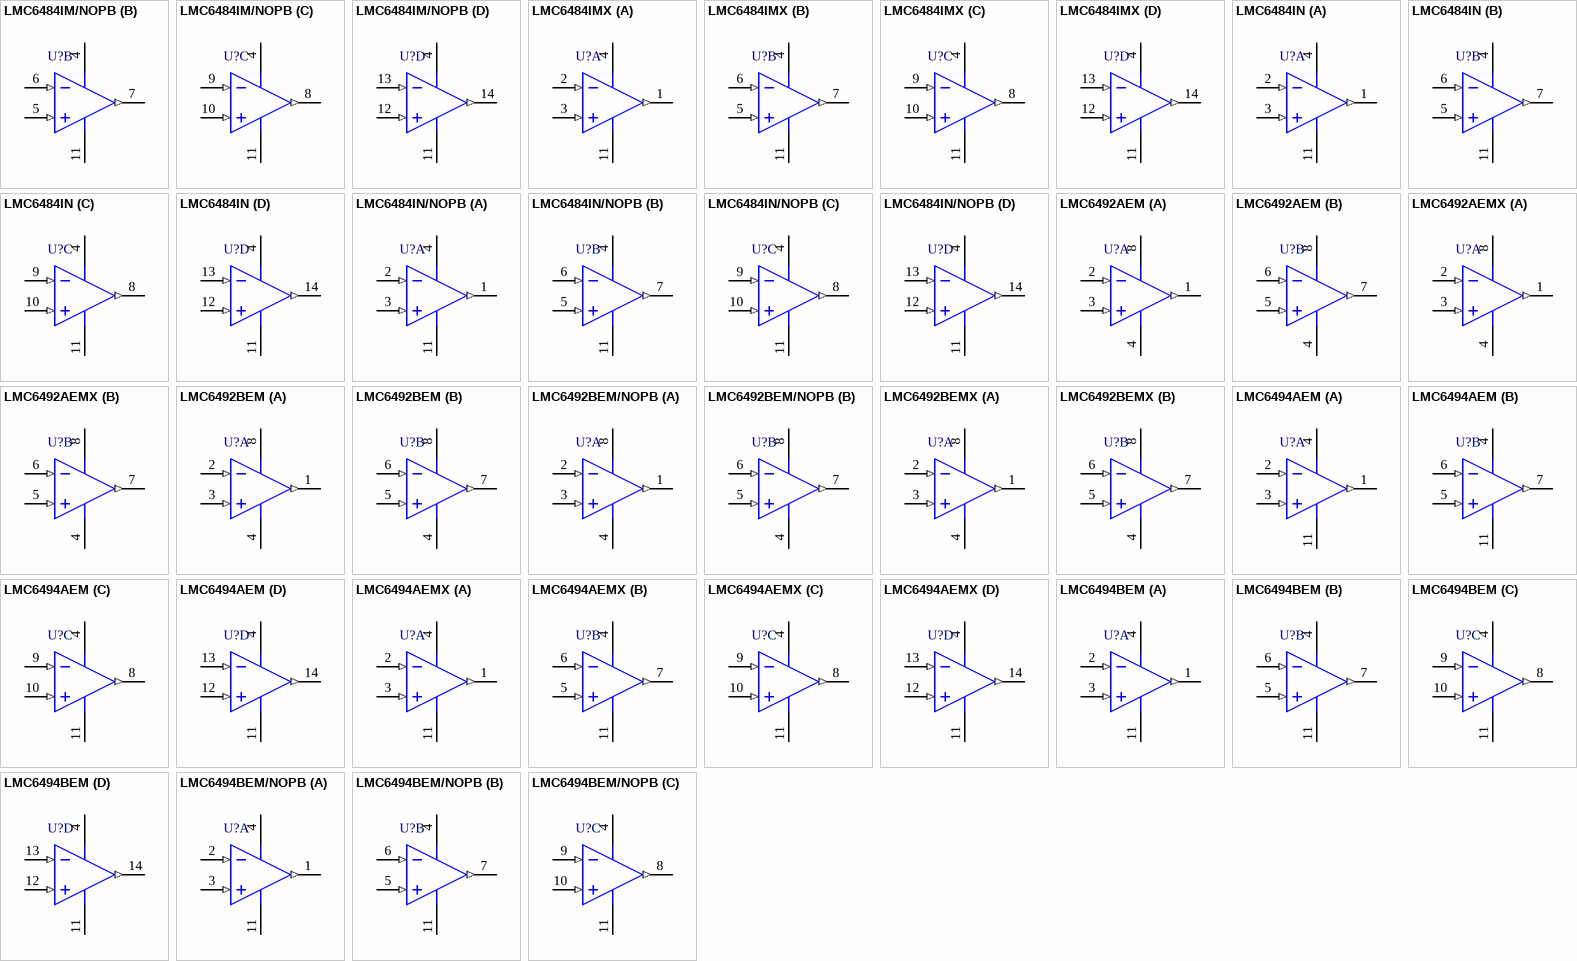
[diagram p35: symbols LMC6484IM/NOPB to LMC6494BEM/NOPB]

## LMC6484IM/NOPB
designator U?
CMOS Quad Rail to Rail Input and Output Operational Amplifier, 14-pin Narrow SOIC, Pb-Free; PartNumber: LMC6484IM/NOPB; Manufacturer: National Semiconductor; PackageTopMarking: NSUZXYTTE#*LMC6484IM; PowerWise: N; CompType: Amplifiers; High-Reliability: Y; DatasheetVersion: Aug-2000; PackageVersion: revJ, Jan-1996; PackageReference: M14A; PackageDescription: Molded Package S.O., .150in Wide, 14 Lead; RoHS: Y; PinCount: 14; Code_JEDEC: MS-012AB; Code_IPC: SOIC127P600-14; ComponentLink1Description: Manufacturer URL; ComponentLink1URL: http://www.national.com/; ComponentLink2Description: LMC6484 Datasheet; ComponentLink2URL: http://www.national.com/ds/LM/LMC6484.pdf; ComponentLink3Description: LMC6484 Web Page; ComponentLink3URL: http://www.national.com/pf/LM/LMC6484.html; ComponentLink4Description: M14A Package Page; ComponentLink4URL: http://www.national.com/packaging/folders/m14a.html
footprint M14A_N (SOIC, 14-Leads, Body 8.6x3.9mm, Pitch 1.27mm, IPC Medium Density)
footprint M14A_L (SOIC, 14-Leads, Body 8.6x3.9mm, Pitch 1.27mm, IPC High Density)
footprint M14A_M (SOIC, 14-Leads, Body 8.6x3.9mm, Pitch 1.27mm, IPC Low Density)
pins on every part: 4 V+ (power), 11 V- (power)
part A pins: 1 OUT1 (out), 2 IN1- (in), 3 IN1+ (in)
part B pins: 5 IN2+ (in), 6 IN2- (in), 7 OUT2 (out)
part C pins: 8 OUT3 (out), 9 IN3- (in), 10 IN3+ (in)
part D pins: 12 IN4+ (in), 13 IN4- (in), 14 OUT4 (out)

## LMC6484IMX
designator U?
CMOS Quad Rail to Rail Input and Output Operational Amplifier, 14-pin Narrow SOIC; PartNumber: LMC6484IMX; Manufacturer: National Semiconductor; PackageTopMarking: NSUZXYTTE#*LMC6484IM; PowerWise: N; CompType: Amplifiers; High-Reliability: Y; DatasheetVersion: Aug-2000; PackageVersion: revJ, Jan-1996; PackageReference: M14A; PackageDescription: Molded Package S.O., .150in Wide, 14 Lead; RoHS: N; PinCount: 14; Code_JEDEC: MS-012AB; Code_IPC: SOIC127P600-14; ComponentLink1Description: Manufacturer URL; ComponentLink1URL: http://www.national.com/; ComponentLink2Description: LMC6484 Datasheet; ComponentLink2URL: http://www.national.com/ds/LM/LMC6484.pdf; ComponentLink3Description: LMC6484 Web Page; ComponentLink3URL: http://www.national.com/pf/LM/LMC6484.html; ComponentLink4Description: M14A Package Page; ComponentLink4URL: http://www.national.com/packaging/folders/m14a.html
footprint M14A_N (SOIC, 14-Leads, Body 8.6x3.9mm, Pitch 1.27mm, IPC Medium Density)
footprint M14A_L (SOIC, 14-Leads, Body 8.6x3.9mm, Pitch 1.27mm, IPC High Density)
footprint M14A_M (SOIC, 14-Leads, Body 8.6x3.9mm, Pitch 1.27mm, IPC Low Density)
pins on every part: 4 V+ (power), 11 V- (power)
part A pins: 1 OUT1 (out), 2 IN1- (in), 3 IN1+ (in)
part B pins: 5 IN2+ (in), 6 IN2- (in), 7 OUT2 (out)
part C pins: 8 OUT3 (out), 9 IN3- (in), 10 IN3+ (in)
part D pins: 12 IN4+ (in), 13 IN4- (in), 14 OUT4 (out)

## LMC6484IN
designator U?
CMOS Quad Rail to Rail Input and Output Operational Amplifier, 14-pin MDIP; PartNumber: LMC6484IN; Manufacturer: National Semiconductor; PackageTopMarking: NSUZXYYTTE#*LMC6484IN; PowerWise: N; CompType: Amplifiers; High-Reliability: Y; DatasheetVersion: Aug-2000; PackageVersion: revG, May-2006; PackageReference: N14A; PackageDescription: MDIP, .750 x .250 x.130in, 14 Lead, .100in Pitch; RoHS: N; PinCount: 14; Code_JEDEC: MS-001-AA; ComponentLink1Description: Manufacturer URL; ComponentLink1URL: http://www.national.com/; ComponentLink2Description: LMC6484 Datasheet; ComponentLink2URL: http://www.national.com/ds/LM/LMC6484.pdf; ComponentLink3Description: LMC6484 Web Page; ComponentLink3URL: http://www.national.com/pf/LM/LMC6484.html; ComponentLink4Description: N14A Package Page; ComponentLink4URL: http://www.national.com/packaging/folders/n14a.html
footprint N14A (DIP, 14-Leads, Row Spacing 7.62mm, Pitch 2.54mm, Body 19.56x6.35mm)
pins on every part: 4 V+ (power), 11 V- (power)
part A pins: 1 OUT1 (out), 2 IN1- (in), 3 IN1+ (in)
part B pins: 5 IN2+ (in), 6 IN2- (in), 7 OUT2 (out)
part C pins: 8 OUT3 (out), 9 IN3- (in), 10 IN3+ (in)
part D pins: 12 IN4+ (in), 13 IN4- (in), 14 OUT4 (out)

## LMC6484IN/NOPB
designator U?
CMOS Quad Rail to Rail Input and Output Operational Amplifier, 14-pin MDIP, Pb-Free; PartNumber: LMC6484IN/NOPB; Manufacturer: National Semiconductor; PackageTopMarking: NSUZXYYTTE#*LMC6484IN; PowerWise: N; CompType: Amplifiers; High-Reliability: Y; DatasheetVersion: Aug-2000; PackageVersion: revG, May-2006; PackageReference: N14A; PackageDescription: MDIP, .750 x .250 x.130in, 14 Lead, .100in Pitch; RoHS: Y; PinCount: 14; Code_JEDEC: MS-001-AA; ComponentLink1Description: Manufacturer URL; ComponentLink1URL: http://www.national.com/; ComponentLink2Description: LMC6484 Datasheet; ComponentLink2URL: http://www.national.com/ds/LM/LMC6484.pdf; ComponentLink3Description: LMC6484 Web Page; ComponentLink3URL: http://www.national.com/pf/LM/LMC6484.html; ComponentLink4Description: N14A Package Page; ComponentLink4URL: http://www.national.com/packaging/folders/n14a.html
footprint N14A (DIP, 14-Leads, Row Spacing 7.62mm, Pitch 2.54mm, Body 19.56x6.35mm)
pins on every part: 4 V+ (power), 11 V- (power)
part A pins: 1 OUT1 (out), 2 IN1- (in), 3 IN1+ (in)
part B pins: 5 IN2+ (in), 6 IN2- (in), 7 OUT2 (out)
part C pins: 8 OUT3 (out), 9 IN3- (in), 10 IN3+ (in)
part D pins: 12 IN4+ (in), 13 IN4- (in), 14 OUT4 (out)

## LMC6492AEM
designator U?
Dual CMOS Rail-to-Rail Input and Output Operational Amplifier, 8-pin Narrow SOIC; PartNumber: LMC6492AEM; Manufacturer: National Semiconductor; PackageTopMarking: NSZXTT*LMC64*92AEM; PowerWise: N; CompType: Amplifiers; High-Reliability: Y; DatasheetVersion: Aug-2000; PackageVersion: revM, May-2009; PackageReference: M08A; PackageDescription: SOIC Narrow, 4.9 x 3.9 x 1.45mm, 8 Lead, 1.27mm Pitch; RoHS: N; PinCount: 8; Code_JEDEC: MS-012-AA; Code_IPC: SOIC127P600-8; ComponentLink1Description: Manufacturer URL; ComponentLink1URL: http://www.national.com/; ComponentLink2Description: LMC6492 Datasheet; ComponentLink2URL: http://www.national.com/ds/LM/LMC6492.pdf; ComponentLink3Description: LMC6492 Web Page; ComponentLink3URL: http://www.national.com/pf/LM/LMC6492.html; ComponentLink4Description: M08A Package Page; ComponentLink4URL: http://www.national.com/packaging/folders/m08a.html
footprint M08A_N (SOIC, 8-Leads, Body 4.9x3.9mm, Pitch 1.27mm, IPC Medium Density)
footprint M08A_L (SOIC, 8-Leads, Body 4.9x3.9mm, Pitch 1.27mm, IPC High Density)
footprint M08A_M (SOIC, 8-Leads, Body 4.9x3.9mm, Pitch 1.27mm, IPC Low Density)
pins on every part: 4 V- (power), 8 V+ (power)
part A pins: 1 OUTA (out), 2 INA- (in), 3 INA+ (in)
part B pins: 5 INB+ (in), 6 INB- (in), 7 OUTB (out)

## LMC6492AEMX
designator U?
Dual CMOS Rail-to-Rail Input and Output Operational Amplifier, 8-pin Narrow SOIC; PartNumber: LMC6492AEMX; Manufacturer: National Semiconductor; PackageTopMarking: NSZXTT*LMC64*92AEM; PowerWise: N; CompType: Amplifiers; High-Reliability: Y; DatasheetVersion: Aug-2000; PackageVersion: revM, May-2009; PackageReference: M08A; PackageDescription: SOIC Narrow, 4.9 x 3.9 x 1.45mm, 8 Lead, 1.27mm Pitch; RoHS: N; PinCount: 8; Code_JEDEC: MS-012-AA; Code_IPC: SOIC127P600-8; ComponentLink1Description: Manufacturer URL; ComponentLink1URL: http://www.national.com/; ComponentLink2Description: LMC6492 Datasheet; ComponentLink2URL: http://www.national.com/ds/LM/LMC6492.pdf; ComponentLink3Description: LMC6492 Web Page; ComponentLink3URL: http://www.national.com/pf/LM/LMC6492.html; ComponentLink4Description: M08A Package Page; ComponentLink4URL: http://www.national.com/packaging/folders/m08a.html
footprint M08A_N (SOIC, 8-Leads, Body 4.9x3.9mm, Pitch 1.27mm, IPC Medium Density)
footprint M08A_L (SOIC, 8-Leads, Body 4.9x3.9mm, Pitch 1.27mm, IPC High Density)
footprint M08A_M (SOIC, 8-Leads, Body 4.9x3.9mm, Pitch 1.27mm, IPC Low Density)
pins on every part: 4 V- (power), 8 V+ (power)
part A pins: 1 OUTA (out), 2 INA- (in), 3 INA+ (in)
part B pins: 5 INB+ (in), 6 INB- (in), 7 OUTB (out)

## LMC6492BEM
designator U?
Dual CMOS Rail-to-Rail Input and Output Operational Amplifier, 8-pin Narrow SOIC; PartNumber: LMC6492BEM; Manufacturer: National Semiconductor; PackageTopMarking: NSZXTT*LMC64*92BEM; PowerWise: N; CompType: Amplifiers; High-Reliability: Y; DatasheetVersion: Aug-2000; PackageVersion: revM, May-2009; PackageReference: M08A; PackageDescription: SOIC Narrow, 4.9 x 3.9 x 1.45mm, 8 Lead, 1.27mm Pitch; RoHS: N; PinCount: 8; Code_JEDEC: MS-012-AA; Code_IPC: SOIC127P600-8; ComponentLink1Description: Manufacturer URL; ComponentLink1URL: http://www.national.com/; ComponentLink2Description: LMC6492 Datasheet; ComponentLink2URL: http://www.national.com/ds/LM/LMC6492.pdf; ComponentLink3Description: LMC6492 Web Page; ComponentLink3URL: http://www.national.com/pf/LM/LMC6492.html; ComponentLink4Description: M08A Package Page; ComponentLink4URL: http://www.national.com/packaging/folders/m08a.html
footprint M08A_N (SOIC, 8-Leads, Body 4.9x3.9mm, Pitch 1.27mm, IPC Medium Density)
footprint M08A_L (SOIC, 8-Leads, Body 4.9x3.9mm, Pitch 1.27mm, IPC High Density)
footprint M08A_M (SOIC, 8-Leads, Body 4.9x3.9mm, Pitch 1.27mm, IPC Low Density)
pins on every part: 4 V- (power), 8 V+ (power)
part A pins: 1 OUTA (out), 2 INA- (in), 3 INA+ (in)
part B pins: 5 INB+ (in), 6 INB- (in), 7 OUTB (out)

## LMC6492BEM/NOPB
designator U?
Dual CMOS Rail-to-Rail Input and Output Operational Amplifier, 8-pin Narrow SOIC, Pb-Free; PartNumber: LMC6492BEM/NOPB; Manufacturer: National Semiconductor; PackageTopMarking: NSZXTT*LMC64*92BEM; PowerWise: N; CompType: Amplifiers; High-Reliability: Y; DatasheetVersion: Aug-2000; PackageVersion: revM, May-2009; PackageReference: M08A; PackageDescription: SOIC Narrow, 4.9 x 3.9 x 1.45mm, 8 Lead, 1.27mm Pitch; RoHS: Y; PinCount: 8; Code_JEDEC: MS-012-AA; Code_IPC: SOIC127P600-8; ComponentLink1Description: Manufacturer URL; ComponentLink1URL: http://www.national.com/; ComponentLink2Description: LMC6492 Datasheet; ComponentLink2URL: http://www.national.com/ds/LM/LMC6492.pdf; ComponentLink3Description: LMC6492 Web Page; ComponentLink3URL: http://www.national.com/pf/LM/LMC6492.html; ComponentLink4Description: M08A Package Page; ComponentLink4URL: http://www.national.com/packaging/folders/m08a.html
footprint M08A_N (SOIC, 8-Leads, Body 4.9x3.9mm, Pitch 1.27mm, IPC Medium Density)
footprint M08A_L (SOIC, 8-Leads, Body 4.9x3.9mm, Pitch 1.27mm, IPC High Density)
footprint M08A_M (SOIC, 8-Leads, Body 4.9x3.9mm, Pitch 1.27mm, IPC Low Density)
pins on every part: 4 V- (power), 8 V+ (power)
part A pins: 1 OUTA (out), 2 INA- (in), 3 INA+ (in)
part B pins: 5 INB+ (in), 6 INB- (in), 7 OUTB (out)

## LMC6492BEMX
designator U?
Dual CMOS Rail-to-Rail Input and Output Operational Amplifier, 8-pin Narrow SOIC; PartNumber: LMC6492BEMX; Manufacturer: National Semiconductor; PackageTopMarking: NSZXTT*LMC64*92BEM; PowerWise: N; CompType: Amplifiers; High-Reliability: Y; DatasheetVersion: Aug-2000; PackageVersion: revM, May-2009; PackageReference: M08A; PackageDescription: SOIC Narrow, 4.9 x 3.9 x 1.45mm, 8 Lead, 1.27mm Pitch; RoHS: N; PinCount: 8; Code_JEDEC: MS-012-AA; Code_IPC: SOIC127P600-8; ComponentLink1Description: Manufacturer URL; ComponentLink1URL: http://www.national.com/; ComponentLink2Description: LMC6492 Datasheet; ComponentLink2URL: http://www.national.com/ds/LM/LMC6492.pdf; ComponentLink3Description: LMC6492 Web Page; ComponentLink3URL: http://www.national.com/pf/LM/LMC6492.html; ComponentLink4Description: M08A Package Page; ComponentLink4URL: http://www.national.com/packaging/folders/m08a.html
footprint M08A_N (SOIC, 8-Leads, Body 4.9x3.9mm, Pitch 1.27mm, IPC Medium Density)
footprint M08A_L (SOIC, 8-Leads, Body 4.9x3.9mm, Pitch 1.27mm, IPC High Density)
footprint M08A_M (SOIC, 8-Leads, Body 4.9x3.9mm, Pitch 1.27mm, IPC Low Density)
pins on every part: 4 V- (power), 8 V+ (power)
part A pins: 1 OUTA (out), 2 INA- (in), 3 INA+ (in)
part B pins: 5 INB+ (in), 6 INB- (in), 7 OUTB (out)